# EAGLE library part MAX1968EUI+T (library MAX1968EUI+T)
Power Management Specialized - PMIC Power Drivers for Peltier TEC Modules Source: Datasheet <https://datasheets.maximintegrated.com/en/ds/MAX1968-MAX1969.pdf>
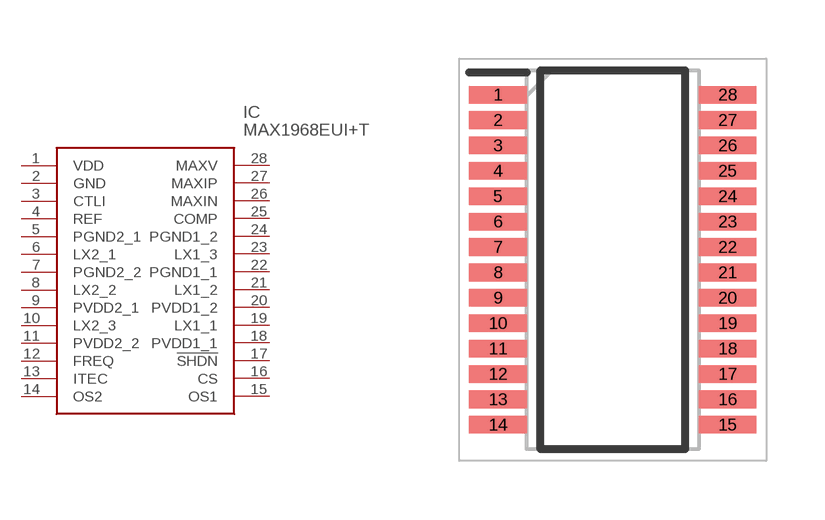
[diagram p0: symbol with the pads of SOP65P640X110-28N; footprint SOP65P640X110-28N]

Designator prefix IC

## MAX1968EUI+T (Description: Power Management Specialized - PMIC Power Drivers for Peltier TEC Modules; Height: 1.1mm; Manufacturer_Name: Analog Devices; Manufacturer_Part_Number: MAX1968EUI+T; Mouser_Part_Number: 700-MAX1968EUIT; Mouser_Price-Stock: https://www.mouser.co.uk/ProductDetail/Analog-Devices-Maxim-Integrated/MAX1968EUI%2bT?qs=Jw2w9zrI6w9F0RzVMjTGIw%3D%3D)  [SOP65P640X110-28N]
1  VDD
2  GND
3  CTLI
4  REF
5  PGND2_1
6  LX2_1
7  PGND2_2
8  LX2_2
9  PVDD2_1
10  LX2_3
11  PVDD2_2
12  FREQ
13  ITEC
14  OS2
15  OS1
16  CS
17  !SHDN
18  PVDD1_1
19  LX1_1
20  PVDD1_2
21  LX1_2
22  PGND1_1
23  LX1_3
24  PGND1_2
25  COMP
26  MAXIN
27  MAXIP
28  MAXV

## Footprint SOP65P640X110-28N (pad centres in mm)
u28+1
smd 1.475 x 0.45: 1 -2.938,4.225; 2 -2.938,3.575; 3 -2.938,2.925; 4 -2.938,2.275; 5 -2.938,1.625; 6 -2.938,0.975; 7 -2.938,0.325; 8 -2.938,-0.325; 9 -2.938,-0.975; 10 -2.938,-1.625; 11 -2.938,-2.275; 12 -2.938,-2.925; 13 -2.938,-3.575; 14 -2.938,-4.225; 15 2.938,-4.225; 16 2.938,-3.575; 17 2.938,-2.925; 18 2.938,-2.275; 19 2.938,-1.625; 20 2.938,-0.975; 21 2.938,-0.325; 22 2.938,0.325; 23 2.938,0.975; 24 2.938,1.625; 25 2.938,2.275; 26 2.938,2.925; 27 2.938,3.575; 28 2.938,4.225